# EAGLE library part CON-6P (library Connectors)
Connector Header 6 position
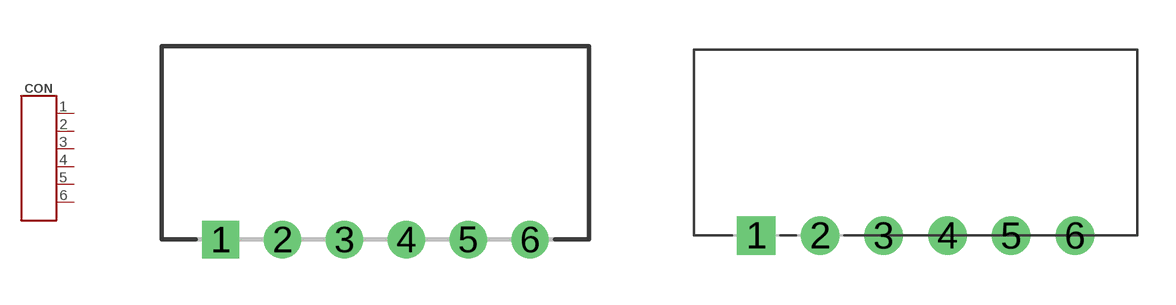
[diagram p1: symbol with the pads of S6B-PH-K-S; footprints S6B-PH-K-S, CWF-6R]

Designator prefix CON

## CON-6P-JST-PH (DIGIKEY#: 455-1243-ND; MANF: JST Corporation; MANF#: S6B-PH-K-S; PITCH: 2 mm)  [S6B-PH-K-S]
1  1
2  2
3  3
4  4
5  5
6  6

## CON-6P-DS1066-RA (MANF: Connfly electronic; MANF#: DS1066-6MRW6)  [S6B-PH-K-S]
Pads as for S6B-PH-K-S

## CON-6P-MW-6MR (MANF: KLS; MANF#: MW-6MR)  [S6B-PH-K-S]
Pads as for S6B-PH-K-S

## CON-6P-CWF-6R (MANF: Connfly electronic; MANF#: DS1069-6MRW6X-B)  [CWF-6R]
Pads as for S6B-PH-K-S

## CON-6P-DS1066 (MANF: Connfly electronic; MANF#: DS1066-06M)  [DS1066-06M]
Pads as for S6B-PH-K-S

## CON-6P-DS1066-06MRW6X-A (MANF: Connfly electronic; MANF#: DS1066-06MRW6X-A)  [DS1066-06MR]
Pads as for S6B-PH-K-S

## CON-6P-JST-XA (LCSC#: C264995; MANF: JST Sales America; MANF#: B06B-XASK-1(LF)(SN))  [B06B-XASK-1]
Pads as for S6B-PH-K-S

## CON-6P-JST-XA-RA (MANF: JST Sales America; MANF#: S06B-XASK-1)  [S06B-XASK-1]
Pads as for S6B-PH-K-S

## CON-6P-JST-JWPF (MANF: JST Sales America; MANF#: B06B-JWPF-SK-R)  [B06B-JWPF-SK-R]
Pads as for S6B-PH-K-S

## CON-6P-JST-VH (MANF: JST Sales America; MANF#: B6P-VH)  [B6P-VH]
Pads as for S6B-PH-K-S

## CON-6P-DS1013 (MANF: Connfly electronic; MANF#: DS1013-06S)  [DS1013-06S]
Pads as for S6B-PH-K-S

## Footprint S6B-PH-K-S (pad centres in mm)
Datasheet <https://static.chipdip.ru/lib/011/DOC004011099.pdf>
drill 0.7 pad 1.2 square: 1 -5,0
drill 0.7 pad 1.2: 2 -3,0; 3 -1,0; 4 1,0; 5 3,0; 6 5,0

## Footprint CWF-6R (pad centres in mm)
drill 1 pad 1.5 square: 1 -6.25,0
drill 1 pad 1.5: 2 -3.75,0; 3 -1.25,0; 4 1.25,0; 5 3.75,0; 6 6.25,0

## Footprint DS1066-06M (pad centres in mm)
Datasheet <https://static.chipdip.ru/lib/502/DOC001502873.pdf> 3D model <https://grabcad.com/library/ph-connectors-1>
drill 0.7 pad 1.2 square: 1 -5,0
drill 0.7 pad 1.2: 2 -3,0; 3 -1,0; 4 1,0; 5 3,0; 6 5,0

## Footprint DS1066-06MR (pad centres in mm)
Drawing <https://static.chipdip.ru/lib/439/DOC015439653.pdf>
drill 0.7 pad 1.3: 1 -5,0; 2 -3,0; 3 -1,0; 4 1,0; 5 3,0; 6 5,0

## Footprint B06B-XASK-1 (pad centres in mm)
Datasheet <https://datasheet.lcsc.com/lcsc/1811011929_JST-Sales-America-B04B-XASK-1-LF-SN_C264994.pdf>
drill 1 pad 1.6 square: 1 -6.25,0
drill 1 pad 1.6: 2 -3.75,0; 3 -1.25,0; 4 1.25,0; 5 3.75,0; 6 6.25,0

## Footprint S06B-XASK-1 (pad centres in mm)
Drawing <https://static.chipdip.ru/lib/906/DOC012906041.pdf>
drill 1 pad 1.8 square: 1 -6.25,4.9
drill 1 pad 1.8: 2 -3.75,4.9; 3 -1.25,4.9; 4 1.25,4.9; 5 3.75,4.9; 6 6.25,4.9

## Footprint B06B-JWPF-SK-R (pad centres in mm)
drill 1 pad 1.6 square: 1 -2,2
drill 1 pad 1.6: 2 0,2; 3 2,2; 4 -2,-2; 5 0,-2; 6 2,-2
hole 1.1 at -4.5,3.5

## Footprint B6P-VH (pad centres in mm)
Description <https://www.jst.com/products/crimp-style-connectors-wire-to-board-type/vh-connector/>
drill 1.7 square: 1 -9.9,0
drill 1.7: 2 -5.94,0; 3 -1.98,0; 4 1.98,0; 5 5.94,0; 6 9.9,0

## Footprint DS1013-06S (pad centres in mm)
Drawing <https://static.chipdip.ru/lib/463/DOC002463525.pdf> 3D model <https://grabcad.com/library/idc-connector-collection-2-54-mm-1>
drill 1.02 square: 1 -2.54,1.27
drill 1.02: 2 -2.54,-1.27; 3 0,1.27; 4 0,-1.27; 5 2.54,1.27; 6 2.54,-1.27